# EAGLE library part MT45W8 (library JLB6_Processor)
PSRAM MT45W4MW16 Micron (4Mx16) MT45W8MW16 (8Mx16)
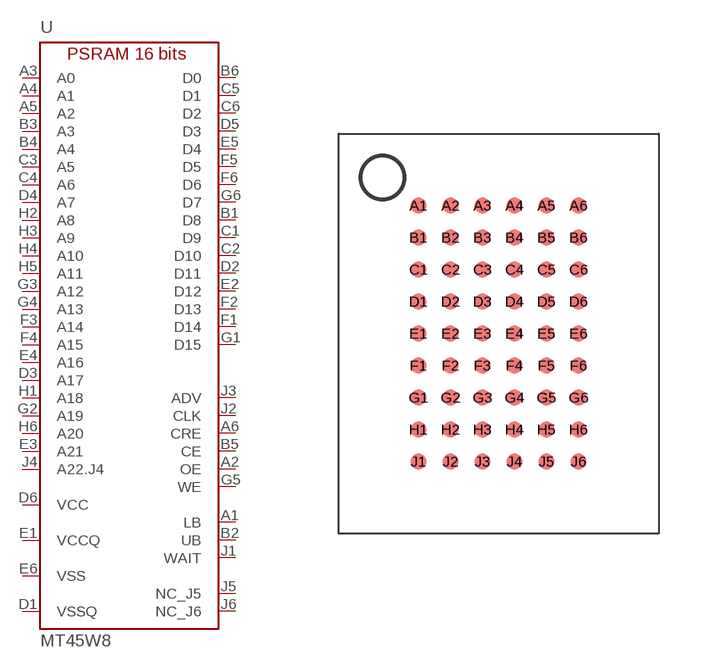
[diagram p20: symbol with the pads of BGA54; footprint BGA54]

Designator prefix U

## MT45W8  [BGA54]
A1  LB
A2  OE
A3  A0
A4  A1
A5  A2
A6  CRE
B1  D8
B2  UB
B3  A3
B4  A4
B5  CE
B6  D0
C1  D9
C2  D10
C3  A5
C4  A6
C5  D1
C6  D2
D1  VSSQ
D2  D11
D3  A17
D4  A7
D5  D3
D6  VCC
E1  VCCQ
E2  D12
E3  A21
E4  A16
E5  D4
E6  VSS
F1  D14
F2  D13
F3  A14
F4  A15
F5  D5
F6  D6
G1  D15
G2  A19
G3  A12
G4  A13
G5  WE
G6  D7
H1  A18
H2  A8
H3  A9
H4  A10
H5  A11
H6  A20
J1  WAIT
J2  CLK
J3  ADV
J4  A22.J4
J5  NC_J5
J6  NC_J6

## Footprint BGA54 (pad centres in mm)
smd 0.4 x 0.4: A1 -2,3.2; A2 -1.2,3.2; A3 -0.4,3.2; A4 0.4,3.2; A5 1.2,3.2; A6 2,3.2; B1 -2,2.4; B2 -1.2,2.4; B3 -0.4,2.4; B4 0.4,2.4; B5 1.2,2.4; B6 2,2.4; C1 -2,1.6; C2 -1.2,1.6; C3 -0.4,1.6; C4 0.4,1.6; C5 1.2,1.6; C6 2,1.6; D1 -2,0.8; D2 -1.2,0.8; D3 -0.4,0.8; D4 0.4,0.8; D5 1.2,0.8; D6 2,0.8; E1 -2,0; E2 -1.2,0; E3 -0.4,0; E4 0.4,0; E5 1.2,0; E6 2,0; F1 -2,-0.8; F2 -1.2,-0.8; F3 -0.4,-0.8; F4 0.4,-0.8; F5 1.2,-0.8; F6 2,-0.8; G1 -2,-1.6; G2 -1.2,-1.6; G3 -0.4,-1.6; G4 0.4,-1.6; G5 1.2,-1.6; G6 2,-1.6; H1 -2,-2.4; H2 -1.2,-2.4; H3 -0.4,-2.4; H4 0.4,-2.4; H5 1.2,-2.4; H6 2,-2.4; J1 -2,-3.2; J2 -1.2,-3.2; J3 -0.4,-3.2; J4 0.4,-3.2; J5 1.2,-3.2; J6 2,-3.2